# EAGLE library part BT_UART (library rac)
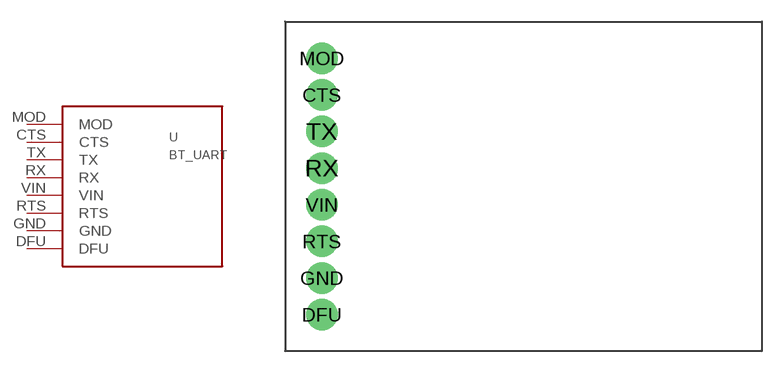
[diagram p2: symbol with the pads of BLE; footprint BLE]

Designator prefix -

## BT_UART'A'  [BLE]
CTS  CTS
DFU  DFU
GND  GND
MOD  MOD
RTS  RTS
RX  RX
TX  TX
VIN  VIN

## Footprint BLE (pad centres in mm)
drill 1.2 pad 2.184: CTS -3.81,7.62; DFU -3.81,-7.62; GND -3.81,-5.08; MOD -3.81,10.16; RTS -3.81,-2.54; RX -3.81,2.54; TX -3.81,5.08; VIN -3.81,0